# Altium schematic symbol library FET-module.SchLib: 4 symbols
Pins are listed as number, name and electrical type; pins without a type are passive.

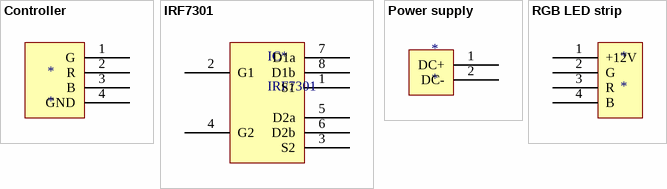
[diagram p0: symbols Controller to RGB LED strip]

## Controller
designator *
pins: 1 G, 2 R, 3 B, 4 GND

## IRF7301
designator IC*
footprint SOIC8 (SOIC, 8-Leads, Body 4.9x3.9mm, Pitch 1.27mm, IPC High Density)
pins: 1 S1, 2 G1, 3 S2, 4 G2, 5 D2a, 6 D2b, 7 D1a, 8 D1b

## Power supply
designator *
pins: 1 DC+, 2 DC-

## RGB LED strip
designator *
pins: 1 +12V, 2 G, 3 R, 4 B